# Altium schematic symbol library IDETEC.SchLib: 205 symbols (part 3 of 3)
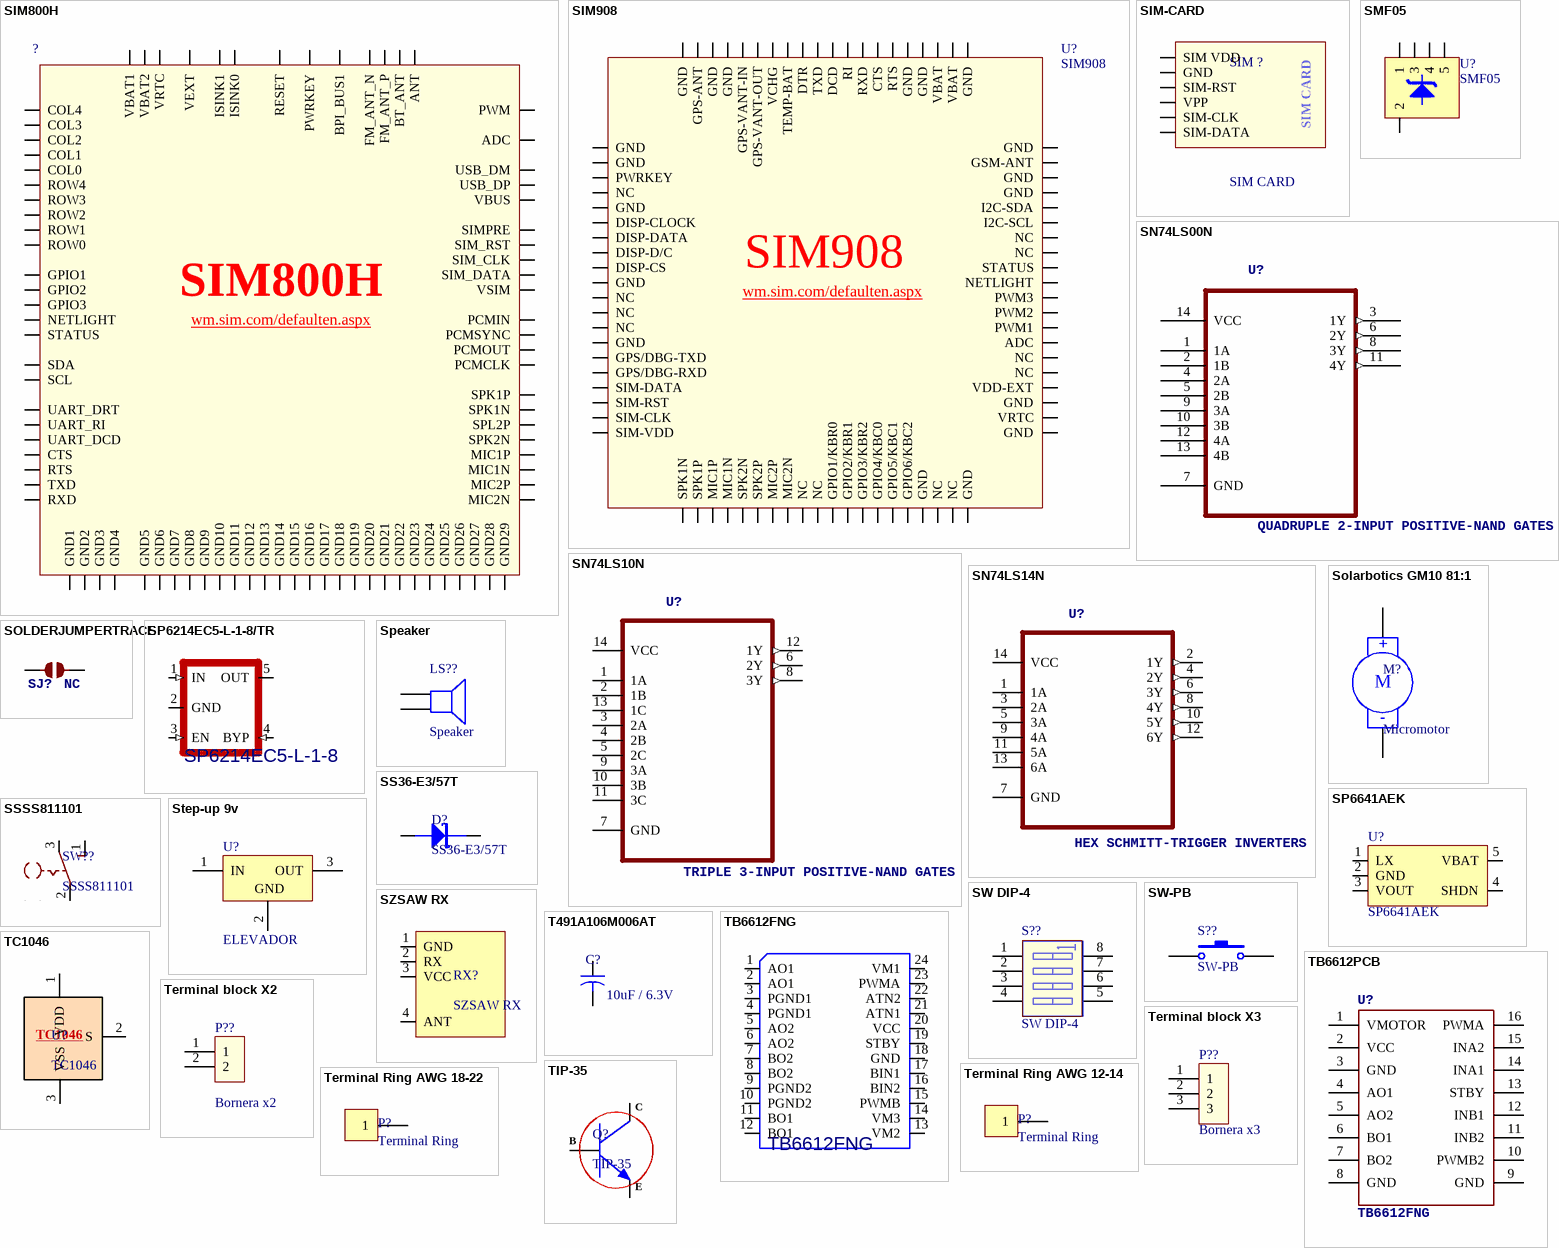
[diagram p9: symbols SIM800H to TIP-35]

## SSSS811101
designator SW??
Manufacturer: ALPS; Actuator: Extended, Side; Contact Form: SPDT; Mounting Angle: Right; Voltage Rating AC: 4 V; Contact Current Rating: 0.3 A at 4 V; Travel: 1.5 mm; Supplier 1: Mouser; Manufacturer Part Number: SSSS811101; RoHS: RoHS Compliant; Category: Slide Switches; Stock 1: 11755; Pricing 1: 1=0.970, 50=0.819, 100=0.726, 500=0.659, 1000=0.533, 4500=0.513, 9000=0.502, 18000=0.502 (USD); Operating Temperature Range: - 10 C to + 60 C; Packaging: Cut Tape; Series: SSSS8; Termination Style: Solder; Type: Slide Switch; Brand: ALPS; Mounting Style: SMD/SMT; Standard Pack Qty: 18000; RoHS - Mouser: Y; Minimum Order Quantity: 1; Reeling: True; Supplier Part Number 1: 688-SSSS811101
footprint SSSS811101 (Interruptores corredizos SPDT HORZ GRND 1.5mm)
pins: 1, 2, 3, G1, G2

## Step-up 9v
designator U?, comment ELEVADOR
3-Terminal Adjustable Regulator
footprint elevador de voltaje (pólolu 9V step-up voltage)
pins: 1 IN (power), 2 GND (power), 3 OUT (power)

## SW DIP-4
designator S??
DIP Switch, 4 Position, SPST; Published: 24-Mar-1999; LatestRevisionDate: 29-May-2009; LatestRevisionNote: IPC-7351 Footprint Added.; PackageVersion: Dec-2002; PackageReference: SO8; Publisher: Altium Limited; PackageDescription: 8-Pin Small Outline Integrated Circuit 1.27 mm Pitch; Code_JEDEC: MS-012-AA; Code_IPC: SOIC127P600-8
footprint SWITCH DIP 4P
pins: 1 A1, 2 A2, 3 A3, 4 A4, 5 B4, 6 B3, 7 B2, 8 B1

## SW-PB
designator S??
Switch; Published: 24-Mar-1999; LatestRevisionDate: 17-Jul-2002; LatestRevisionNote: Re-released for DXP Platform.; PackageReference: SPST-2; Publisher: Altium Limited
footprint PTS645SM50LFS
footprint TL3330AF130QG (Sw)
footprint TACTILE-SWITCH-SMD-ALT01; pin to pad 1>1+2 2>3+4
footprint B3F-40XX-ROUND
pins: 1, 2

## SZSAW RX
designator RX?
SZSAW RX: SZSAW RX
pins: 1 GND, 2 RX, 3 VCC, 4 ANT

## T491A106M006AT
designator C?  value 10uF / 6.3V  (hidden comment: T491A106M006AT)
CAP TANT 10UF 6.3V 20% 1206
footprint 3216 Case-A (CAP TANT 10UF 6.3V 20% 1206)
pins: 1, 2

## TB6612FNG
designator U?
IC MOTOR DRIVER PAR 24SSOP; Supplier 1: Digi-Key; Supplier Part Number 1: TB6612FNGC8ELCT-ND
footprint SSOP24-0.65-8.9X5.3MM_DRIVER-TB6612FNG-O/C8/EL(SSOP24)(Primary)
pins: 1 AO1 (io), 2 AO1 (io), 3 PGND1 (io), 4 PGND1 (io), 5 AO2 (io), 6 AO2 (io), 7 BO2 (io), 8 BO2 (io), 9 PGND2 (io), 10 PGND2 (io), 11 BO1 (io), 12 BO1 (io), 13 VM2 (io), 14 VM3 (io), 15 PWMB (io), 16 BIN2 (io), 17 BIN1 (io), 18 GND (io), 19 STBY (io), 20 VCC (io), 21 ATN1 (io), 22 ATN2 (io), 23 PWMA (io), 24 VM1 (io)

## TB6612PCB
designator U?, comment TB6612FNG
Toshiba 1A dual motor driver IC-09363; PROD_ID: IC-09363; VALUE: TB6612FNG
footprint TB6612PCB
pins: 1 VMOTOR, 2 VCC (power), 3 GND, 4 AO1, 5 AO2, 6 BO1, 7 BO2, 8 GND, 9 GND, 10 PWMB2, 11 INB2, 12 INB1, 13 STBY, 14 INA1, 15 INA2, 16 PWMA

## TC1046
designator U?
High Precision Temperature-to-Voltage Converter
footprint SOT-23-TT3_N (SOT23, 3-Leads, Body 2.9x1.3mm, Pitch 0.95mm, Lead Span 2.4mm, IPC Medium Density)
pins: 1 VDD (power), 2 S (power), 3 VSS (power)

## Terminal block X2
designator P??, comment Bornera x2
Harwin M52 Pin Header Vertical SMT 1.27mm Pitch x 2
footprint VERDE 2pin (bornera verde)
footprint BORNERA 300V 30A (bornera con tapa naranja)
pins: 1, 2

## Terminal block X3
designator P??, comment Bornera x3
Harwin M52 Pin Header Vertical SMT 1.27mm Pitch x 3
footprint AZUL5-3 - duplicate (bornera azul)
footprint VERDE 3pin (bornera verde)
footprint BORNERA 300V 30A 3P (3-Terminal block)
pins: 1, 2, 3

## Terminal Ring AWG 12-14
designator P?, comment Terminal Ring
footprint Terminal ring AWG12-14
pins: 1

## Terminal Ring AWG 18-22
designator P?, comment Terminal Ring
footprint Terminal Ring AWG 18-22
pins: 1

## TIP-35
designator Q?
BJT
footprint TO-247 con Disp
pins: 1 B, 2 E, 3 C

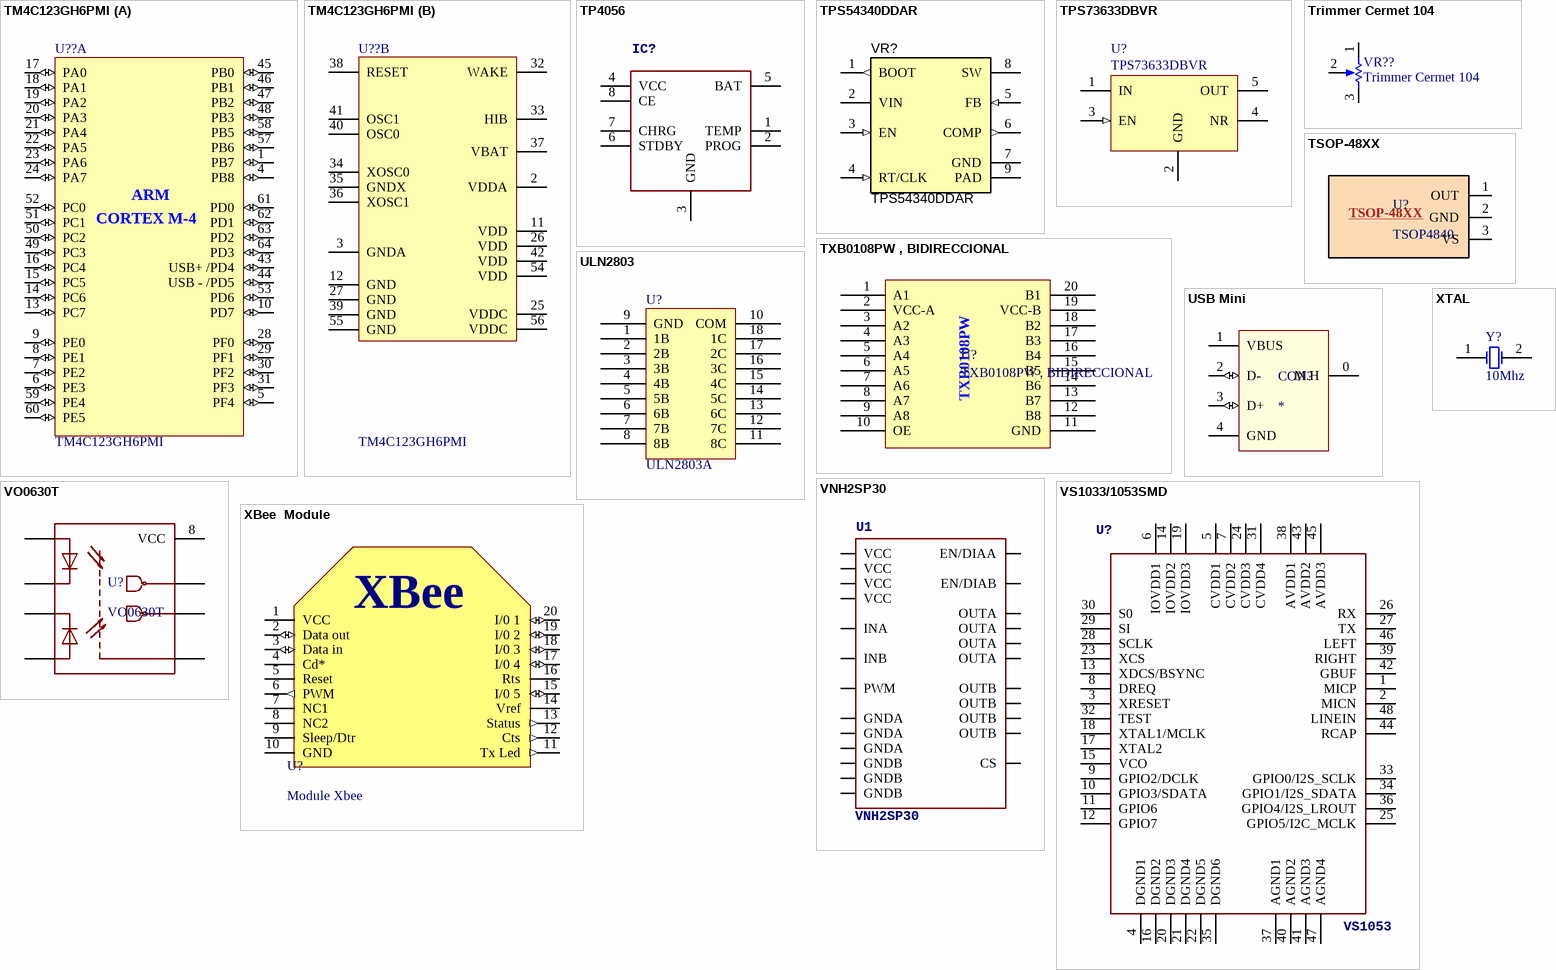
[diagram p7: symbols TM4C123GH6PMI to XTAL]

## TM4C123GH6PMI
designator U??
IC MCU 32BIT 256KB FLASH 64LQFP; Manufacturer: Texas Instruments; Manufacturer Part Number: TM4C123GH6PMIR; Core Processor: ARM® Cortex®-M4F; Core Size: 32-Bit; Speed: 80MHz; Connectivity: CAN, I²C, IrDA, Microwire, QEI, SPI, SSI, UART/USART, USB OTG; Peripherals: Brown-out Detect/Reset, DMA, Motion PWM, POR, WDT; Number of I/O: 43; Program Memory Size: 256KB (256K x 8); EEPROM Size: 2K x 8; RAM Size: 32K x 8; Voltage - Supply (Vcc/Vdd): 1.08 V ~ 3.63 V; Data Converters: A/D 12x12b; Oscillator Type: Internal; Supplier 1: Digi-Key; Supplier Part Number 1: TM4C123GH6PMIR-ND; RoHS: RoHS Compliant; Category: Integrated Circuits (ICs); Stock 1: 0; Pricing 1: 1000=6.237 (USD); Packaging: Tray; Program Memory Type: FLASH; Operating Temperature: -40°C ~ 85°C; Package / Case: 64-LQFP; Supplier Device Package: 64-LQFP (10x10); ComponentLink1URL: http://www.ti.com/lit/ds/symlink/tm4c123gh6pm.pdf; ComponentLink1Description: http://www.ti.com/lit/ds/symlink/tm4c123gh6pm.pdf
footprint TQFP-PT64_M (Thin QFP, 64-Leads, Body 10x10mm, Pitch 0.5mm, IPC Low Density)
part A pins: 1 PB7 (io), 4 PB8 (io), 5 PF4 (io), 6 PE3 (io), 7 PE2 (io), 8 PE1 (io), 9 PE0 (io), 10 PD7 (io), 13 PC7 (io), 14 PC6 (io), 15 PC5 (io), 16 PC4 (io), 17 PA0 (io), 18 PA1 (io), 19 PA2 (io), 20 PA3 (io), 21 PA4 (io), 22 PA5 (io), 23 PA6 (io), 24 PA7 (io), 28 PF0 (io), 29 PF1 (io), 30 PF2 (io), 31 PF3 (io), 43 USB+ /PD4 (io), 44 USB - /PD5 (io), 45 PB0 (io), 46 PB1 (io), 47 PB2 (io), 48 PB3 (io), 49 PC3 (io), 50 PC2 (io), 51 PC1 (io), 52 PC0 (io), 53 PD6 (io), 57 PB6 (io), 58 PB5 (io), 59 PE4 (io), 60 PE5 (io), 61 PD0 (io), 62 PD1 (io), 63 PD2 (io), 64 PD3 (io)
part B pins: 2 VDDA, 3 GNDA, 11 VDD, 12 GND, 25 VDDC, 26 VDD, 27 GND, 32 WAKE, 33 HIB, 34 XOSC0, 35 GNDX, 36 XOSC1, 37 VBAT, 38 RESET, 39 GND, 40 OSC0, 41 OSC1, 42 VDD, 54 VDD, 55 GND, 56 VDDC
part A text: ARM; CORTEX M-4

## TP4056
designator IC?
MP: TP4056; MF: NanJing Top Power ASIC Corp.; Package: Package Analog Devices; Price: None; Availability: Unavailable
footprint SOP-8
pins: 1 TEMP, 2 PROG, 3 GND, 4 VCC, 5 BAT, 6 STDBY, 7 CHRG, 8 CE

## TPS54340DDAR
designator VR?
42 V Input, 3.5 A, Step Down DC-DC Converter with Eco-mode, DDA0008E (SOIC-8); Manufacturer: Texas Instruments; SymbolCreator: a0411947; SizeArea_mm2: 31; SizeAreaWB_mm2: 57.4; SizeX_mm: 5; SizeY_mm: 6.2; SizeZ_mm: 1.7; CompType: IC; U/M: EA; SymbolVersion: 2016-2-15; PartNumber: TPS54340DDAR; Alternate PartNumber: TPS54340DDA; PackageReference: DDA0008E; PackageDescription: SOIC-8; MountType: SMT; ComponentLink1Description: Datasheet Link; ComponentLink1URL: http://www.ti.com/lit/ds/symlink/tps54340.pdf; RoHS: Y; Publisher: Texas Instruments; LatestRevisionDate: 2016-10-11; Alternate Manufacturer: Texas Instruments
footprint DDA0008E_N
footprint DDA0008E_M
footprint DDA0008E_L
pins: 1 BOOT (out), 2 VIN (power), 3 EN (in), 4 RT/CLK (in), 5 FB (in), 6 COMP (out), 7 GND (power), 8 SW (power), 9 PAD (power)

## TPS73633DBVR
designator U?
IC REG LDO 3.3V 0.4A SOT23-5; Manufacturer: TEXAS INSTRUMENTS; Manufacturer Part Number: TPS73633DBVT; Input Voltage Min: 1.7; Input Voltage Max: 5.5; Output Voltage Nom.: 3.3; Output Current: 400; Dropout Voltage Vdo: 75; LDO Regulator Case Style: SOT-23; No. of Pins: 5; SVHC: No SVHC (15-Jun-2015; Supplier 1: Digi-Key; Supplier Part Number 1: 296-15819-2-ND; Supplier 2: Farnell; Supplier Part Number 2: 2437785; RoHS: YES; Stock 2: 1245; Pricing 2: 250=1,04, 750=0,823, 1250=0,757 (GBP); Operating Temperature Min: -40; Operating Temperature Max: 85; Packaging: Tape & Reel; MSL: MSL 1 - Unlimited; ComponentLink1URL: http://www.farnell.com/datasheets/1887498.pdf; ComponentLink1Description: http://www.farnell.com/datasheets/1887498.pdf
footprint TPS736xx (IC REG LDO 3.3V 0.4A SOT23-5)
pins: 1 IN (power), 2 GND (power), 3 EN (in), 4 NR, 5 OUT (power)

## Trimmer Cermet 104
designator VR??
footprint POT LIN VR1
footprint 3314G-1 (Bourns 3314 - 4 mm Square Trimpot® Trimming Potentiometer)
footprint Trimmer Cermet 104 - duplicate
footprint Trimmer Cermet 104 ACOSTADO
pins: 1, 2, 3

## TSOP-48XX
designator U?, comment TSOP4840
IR Receiver Modules for Remote Control Systems
footprint TSOP-48XX
pins: 1 OUT (power), 2 GND (power), 3 VS (power)

## TXB0108PW , BIDIRECCIONAL
designator U?
BIDIRECCIONAL DE 8BITS; Rule: UNIONINDEX{}0[]RULEKIND{}Clearance[]NETSCOPE{}DifferentNets[]LAYERKIND{}SameLayer[]NAME{}Schematic Clearance Constraint[]GAP{}9.8425mil[]UNIT{}Metric[]PcbType{}ProtelPcb
footprint TXB0108PW (TSSOP20_MB)
pins: 1 A1 (power), 2 VCC-A, 3 A2, 4 A3, 5 A4, 6 A5 (power), 7 A6 (power), 8 A7 (power), 9 A8 (power), 10 OE, 11 GND, 12 B8, 13 B7, 14 B6, 15 B5, 16 B4, 17 B3 (power), 18 B2, 19 VCC-B (power), 20 B1 (power)
text: TXB0108PW

## ULN2803
designator U?, comment ULN2803A
Transistores Darlington TRANSISTOR ARRAYS; Value: ULN2803ADWR; ULN2803A: ULN2803A
footprint SOIC-SO18
pins: 1 1B, 2 2B, 3 3B, 4 4B, 5 5B, 6 6B, 7 7B, 8 8B, 9 GND (power), 10 COM, 11 8C, 12 7C, 13 6C, 14 5C, 15 4C, 16 3C, 17 2C, 18 1C

## USB Mini
designator CON?
USB Mini
footprint USB MINI
footprint USB_MICRO_B_AT
pins: 0 M.H, 1 VBUS (power), 2 D- (io), 3 D+ (io), 4 GND

## VNH2SP30
designator U?  >NAME: U1  (hidden comment: VNH2SP30)
>VALUE: VNH2SP30
footprint VNH2SP30
pins: 1 OUTA, 3 VCC, 5 INA, 6 EN/DIAA, 8 PWM, 9 CS, 10 EN/DIAB, 11 INB, 13 VCC, 15 OUTB, 16 OUTB, 18 GNDB, 19 GNDB, 20 GNDB, 21 OUTB, 23 VCC, 25 OUTA, 26 GNDA, 27 GNDA, 28 GNDA, 30 OUTA, SLUG1 VCC, SLUG2 OUTB, SLUG3 OUTA

## VO0630T
designator U?
Optoacopladores de alta velocidad Dual 10Mbd Hi-Speed Open Drain Out; MF: Vishay; Availability: Good; Price: 1.84 USD; MP: VO0630T; Package: SOIC-8 Vishay
footprint SOIC127P600X175-8N
pins: 1 A1, 2 C1, 3 C2, 4 A2, 5 GND (power), 6 VO2, 7 VO1, 8 VCC (power)

## VS1033/1053SMD
designator U?, comment VS1053
MP3 codec
footprint LQFP-48
pins: 1 MICP, 2 MICN, 3 XRESET, 4 DGND1, 5 CVDD1, 6 IOVDD1, 7 CVDD2, 8 DREQ, 9 GPIO2/DCLK, 10 GPIO3/SDATA, 11 GPIO6, 12 GPIO7, 13 XDCS/BSYNC, 14 IOVDD2, 15 VCO, 16 DGND2, 17 XTAL2, 18 XTAL1/MCLK, 19 IOVDD3, 20 DGND3, 21 DGND4, 22 DGND5, 23 XCS, 24 CVDD3, 25 GPIO5/I2C_MCLK, 26 RX, 27 TX, 28 SCLK, 29 SI, 30 S0, 31 CVDD4, 32 TEST, 33 GPIO0/I2S_SCLK, 34 GPIO1/I2S_SDATA, 35 DGND6, 36 GPIO4/I2S_LROUT, 37 AGND1, 38 AVDD1, 39 RIGHT, 40 AGND2, 41 AGND3, 42 GBUF, 43 AVDD2, 44 RCAP, 45 AVDD3, 46 LEFT, 47 AGND4, 48 LINEIN

## XBee  Module
designator U?, comment Module Xbee
footprint 888-XBP09-XCUIT-009 (XBEE PRO)
pins: 1 VCC (power), 2 Data out (io), 3 Data in (io), 4 Cd* (hiz), 5 Reset (hiz), 6 PWM (out), 7 NC1 (hiz), 8 NC2 (hiz), 9 Sleep/Dtr, 10 GND (power), 11 Tx Led (out), 12 Cts (out), 13 Status (out), 14 Vref (hiz), 15 I/0 5 (io), 16 Rts (hiz), 17 I/0 4 (io), 18 I/0 3 (io), 19 I/0 2 (io), 20 I/0 1 (io)
text: XBee

## XTAL
designator Y?, comment 10Mhz
Crystal Oscillator; Published: 8-Jun-2000; LatestRevisionDate: 17-Jul-2002; LatestRevisionNote: Re-released for DXP Platform.; PackageReference: R38; Publisher: Altium Limited
simulation model XTAL (Spice Subcircuit)
footprint CRYSTAL (Cristal de Quarzo)
footprint FX-3 4MHz and Below Down (FOX Electronics, Micro Miniature "AT STRIP" Crystal 10.5 x Ø3.2mm)
footprint NX8045GB (Crystal SMD, 2-Leads, Body 8,10x4,60mm, IPC Medium Density)
footprint XTAL SMD (FOX Electronics, Micro Miniature "AT STRIP" Crystal 10.5 x Ø3.2mm)
footprint ABM3-12.288MHz-D2Y-T (Crystals 12.288MHz 18pF 30ppm -40C +85C)
pins: 1 OSC1, 2 OSC2